# Altium schematic symbol library DRV8353RS_IC.SCHLIB: 4 symbols
Pins are listed as number, name and electrical type; pins without a type are passive.

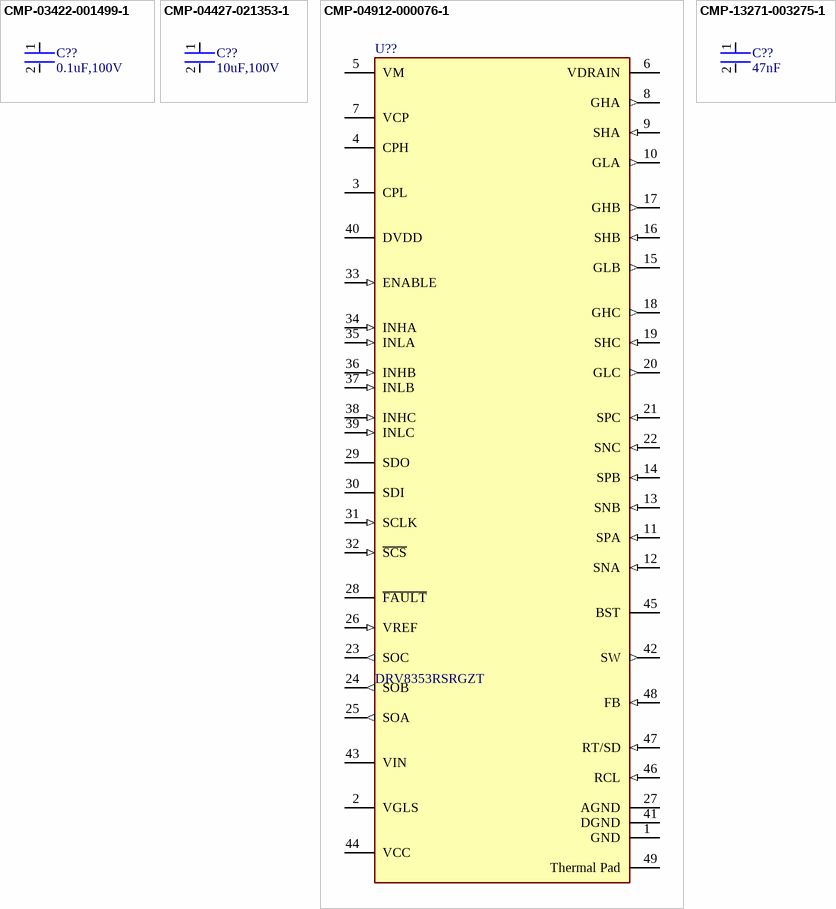
[diagram p0: symbols CMP-03422-001499-1 to CMP-13271-003275-1]

## CMP-03422-001499-1
designator C??, comment 0.1uF,100V
CAP CER 0.1UF 100V X7R 1206; Manufacturer: Yageo; Manufacturer Part Number: CC1206KKX7R0BB104; Capacitance: 100nF; Dielectric Material: Ceramic; Tolerance: 10%; Voltage: 63V; Mount: Surface Mount; Series: CC; Lead Free: Lead Free; Resistor Type: Ceramic; Depth: 1.6mm; Packaging: Tape and Reel; REACH SVHC: No SVHC; Max Operating Temperature: 125°C; Termination: SMD/SMT; Min Operating Temperature: -55°C; Number of Pins: 2; Radiation Hardening: No; Case Code (Imperial): 1206; Package Quantity: 1; Height: 1.25mm; Thickness: 0.057inch; Length: 3.2mm; Case Code (Metric): 3216; Case/Package: 1206; Dielectric: X7R; RoHS Compliant: Yes; Width: 0.063inch; Voltage Rating (DC): 100V; Voltage Rating: 100V
footprint FP-CC1206-0_3-1_45-MFG
pins: 1, 2

## CMP-04427-021353-1
designator C??, comment 10uF,100V
Automotive Ceramic Capacitor, 2220, 10uF, 10%, X7R, 15%, 100V; Manufacturer: Kyocera AVX; Manufacturer Part Number: 22201C106K4Z2A; Max Operating Temperature: 125°C; Voltage Rating (DC): 100V; Case Code (Imperial): 2220; Packaging: Cut Tape; Voltage Rating: 100V; Capacitance: 10uF; REACH SVHC: No SVHC; Case Code (Metric): 5750; Case/Package: 2220; Tolerance: 10%; RoHS Compliant: Yes; Dielectric: X7R; Min Operating Temperature: -55°C
footprint FP-2220-L_5_7_0_5-W_5_0_4-IPC_B
footprint FP-2220-L_5_7_0_5-W_5_0_4-IPC_A
footprint FP-2220-L_5_7_0_5-W_5_0_4-MFG
footprint FP-2220-L_5_7_0_5-W_5_0_4-IPC_C
pins: 1, 2

## CMP-04912-000076-1
designator U??, comment DRV8353RSRGZT
IC MTR DRV MULTIPHAS 6-95V 48QFN; Manufacturer: Texas Instruments; Interface: SPI; Output Current: 25mA; Packaging: Cut Tape; Min Operating Temperature: -40°C; Mount: Surface Mount; Max Operating Temperature: 125°C; Case/Package: VQFN; RoHS Compliant: Yes; Manufacturer Part Number: DRV8353RSRGZT
footprint QFN50P700X700X100-49N-D
pins: 1 GND (power), 2 VGLS (power), 3 CPL (power), 4 CPH (power), 5 VM (power), 6 VDRAIN (power), 7 VCP (power), 8 GHA (out), 9 SHA (in), 10 GLA (out), 11 SPA (in), 12 SNA (in), 13 SNB (in), 14 SPB (in), 15 GLB (out), 16 SHB (in), 17 GHB (out), 18 GHC (out), 19 SHC (in), 20 GLC (out), 21 SPC (in), 22 SNC (in), 23 SOC (out), 24 SOB (out), 25 SOA (out), 26 VREF (in), 27 AGND (power), 28 ~{FAULT} (oc), 29 SDO (oc), 30 SDI, 31 SCLK (in), 32 ~{SCS} (in), 33 ENABLE (in), 34 INHA (in), 35 INLA (in), 36 INHB (in), 37 INLB (in), 38 INHC (in), 39 INLC (in), 40 DVDD (power), 41 DGND (power), 42 SW (out), 43 VIN (power), 44 VCC (power), 45 BST (power), 46 RCL (in), 47 RT/SD (in), 48 FB (in), 49 Thermal Pad

## CMP-13271-003275-1
designator C??, comment 47nF
Cap Ceramic 1nF 100V X7R ±10% Pad SMD 0603 +125°C T/R; Manufacturer: Samsung; Manufacturer Part Number: CL10B102KC8NNNC; Contact Plating: Tin; Case Code (Imperial): 0603; Capacitance: 1nF; Material: Ceramic; Length: 1.6mm; Width: 0.031inch; Radiation Hardening: No; Dielectric: X7R; Case Code (Metric): 1608; Package Quantity: 1; Tolerance: 10%; Voltage: 100V; Mount: Surface Mount; Lead Free: Lead Free; Voltage Rating: 100V; Case/Package: 0603; Voltage Rating (DC): 100V; Depth: 0.8mm; Packaging: Tape and Reel; Min Operating Temperature: -55°C; Thickness: 0.035inch; Height: 0.8mm; Max Operating Temperature: 125°C
footprint FP-CL10-IPC_C
footprint FP-CL10-IPC_B
footprint FP-CL10-IPC_A
pins: 1, 2